# Altium footprint library PcbLib1.PcbLib: 10 footprints
Each footprint in its own frame and in the unit in brackets; x right, y up, seen from the top. Pads: shape width x height; smd on the part's side, far side on the other; paste and mask are expansions set on the pad; w line width, h text height; cw(c..) or ccw(c..) is an arc to the next point about the centre after c.
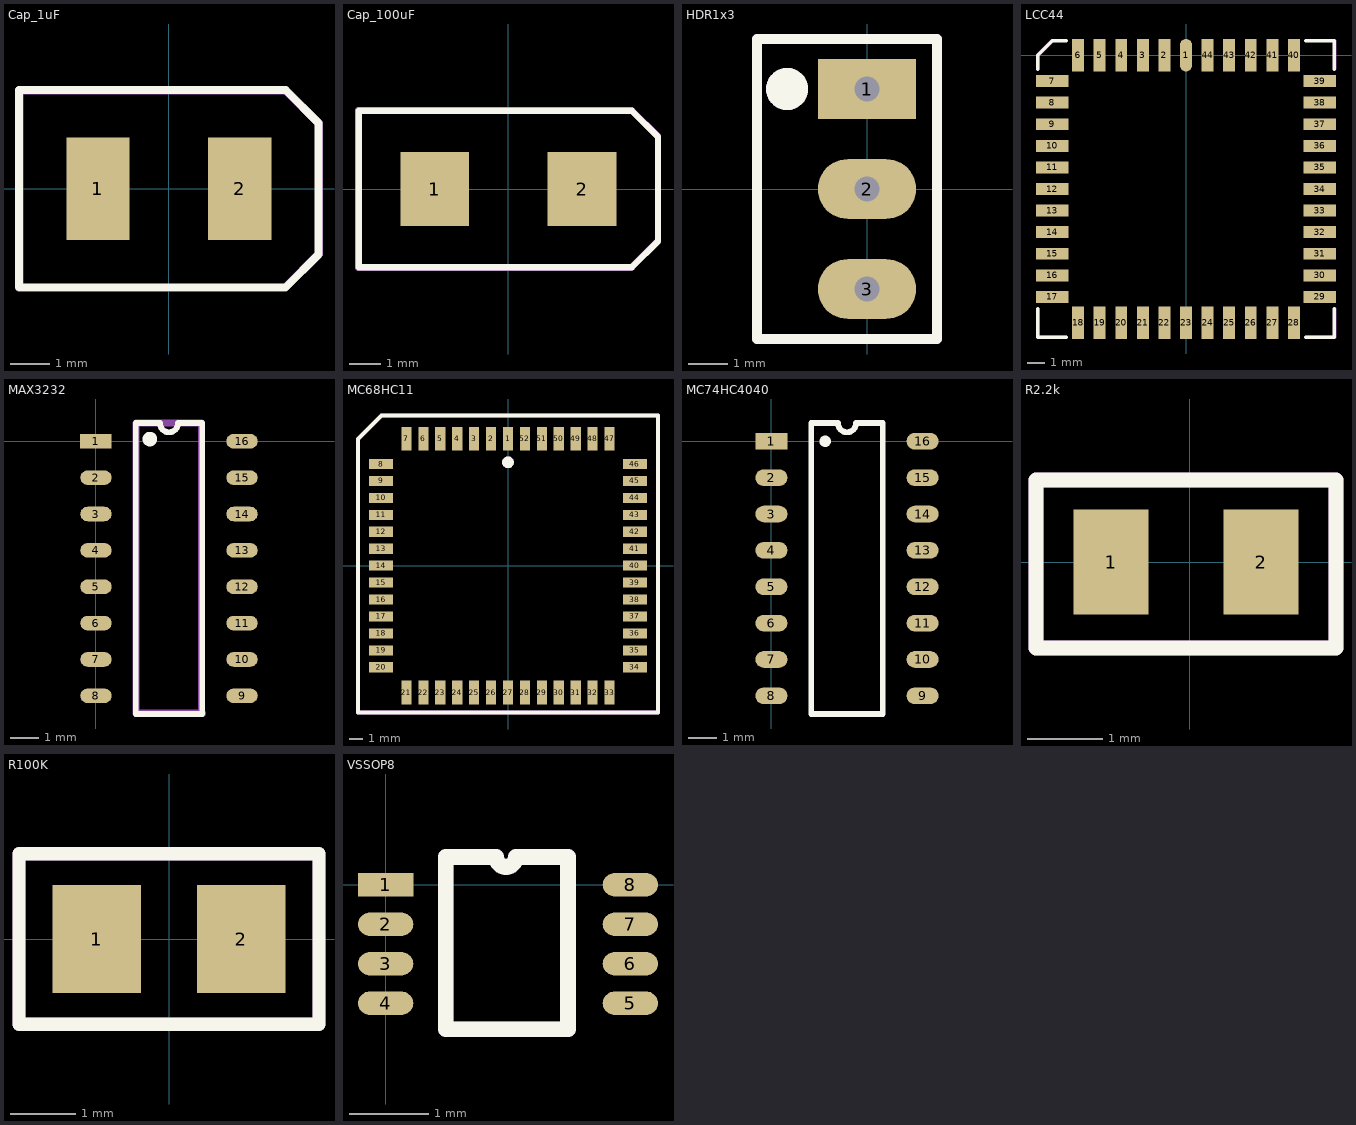
[diagram p0: the footprints below, top view; thin cyan lines are the x and y axes]

## Cap_1uF [mm]
pads (2):
  rect 1.6x2.6 smd: 1(-1.8,0) 2(1.8,0)
Top Overlay:
  lines w0.2: -3.8,-2.5 -3.8,0 -3.8,2.5 2.967,2.5 3.8,1.667 3.8,-1.667 2.967,-2.5 -3.8,-2.5
Mechanical 29:
  lines w0.2: -3.785,-2.515 2.946,-2.515 3.81,-1.651 3.81,1.651 2.972,2.489 -3.785,2.489 -3.785,-2.515
  text "'.Designator'" at -3.785,-2.515 h1.52
3D body "CAP_WCAP-ASLI_04p0X05p5_WRE.step": height 5.57, standoff 0, extent -2.604,-2.248 2.604,2.248

## Cap_100uF [mm]
pads (2):
  rect 2.2x2.35 smd: 1(-2.35,0) 2(2.35,0)
Top Overlay:
  lines w0.2: -4.775,-2.5 3.942,-2.5 4.775,-1.667 4.775,1.667 3.942,2.5 -4.775,2.5 -4.775,0 -4.775,-2.5
Mechanical 29:
  lines w0.2: -4.801,-2.515 -4.801,2.515 3.937,2.515 4.775,1.676 4.775,-1.651 3.912,-2.515 -4.801,-2.515
  text "'.Designator'" at -4.801,-2.515 h0.7
3D body "CAP_MZR_F80_NIP.step": height 8.05, standoff 0, extent -3.734,-3.454 3.658,3.354

## HDR1x3 [mm]
pads (3):
  rect 2.5x1.524 hole 0.64: 1(0,2.54)
  oval 2.5x1.524 hole 0.64: 2(0,0) 3(0,-2.54)
Top Overlay:
  circle w0.559: c-2.032,2.54 r0.254
  lines w0.254: -2.794,-3.81 -2.794,3.81 1.778,3.81 1.778,-3.81 -2.794,-3.81
Mechanical 29:
  circle w0.559: c-2.032,2.54 r0.254
  lines w0.254: -2.794,-3.81 1.778,-3.81 1.778,3.81 -2.794,3.81 -2.794,-3.81
  text "'.Designator'" at -2.282,-0.333 h0.8
3D body "Download_STP_61300311121_rev1.stp": height 8.54, standoff -3, extent -1.27,-3.81 1.27,3.81

## LCC44 [mm]
pads (44):
  oval 0.7x1.91 smd: 1(0,0)
  rect 0.7x1.91 smd: 2(-1.27,0) 3(-2.54,0) 4(-3.81,0) 5(-5.08,0) 6(-6.35,0) 18(-6.35,-15.74) 19(-5.08,-15.74) 20(-3.81,-15.74) 21(-2.54,-15.74) 22(-1.27,-15.74) 23(0,-15.74) 24(1.27,-15.74) 25(2.54,-15.74) 26(3.81,-15.74) 27(5.08,-15.74) 28(6.35,-15.74) 40(6.35,0) 41(5.08,0) 42(3.81,0) 43(2.54,0) 44(1.27,0)
  rect 1.91x0.7 smd: 7(-7.87,-1.52) 8(-7.87,-2.79) 9(-7.87,-4.06) 10(-7.87,-5.33) 11(-7.87,-6.6) 12(-7.87,-7.87) 13(-7.87,-9.14) 14(-7.87,-10.41) 15(-7.87,-11.68) 16(-7.87,-12.95) 17(-7.87,-14.22) 29(7.87,-14.22) 30(7.87,-12.95) 31(7.87,-11.68) 32(7.87,-10.41) 33(7.87,-9.14) 34(7.87,-7.87) 35(7.87,-6.6) 36(7.87,-5.33) 37(7.87,-4.06) 38(7.87,-2.79) 39(7.87,-1.52)
Top Overlay:
  lines w0.2: -8.725,-14.92 -8.725,-16.595 -7.05,-16.595 ; -8.725,-0.82 -8.725,0 -7.87,0.855 -7.05,0.855 ; 7.05,-16.595 8.725,-16.595 8.725,-14.92 ; 7.05,0.855 8.725,0.855 8.725,-0.82
Mechanical 29:
  lines w0.2: -8.708,-14.907 -8.708,-16.582 -7.033,-16.582 ; -8.708,-0.807 -8.708,0.013 -7.853,0.868 -7.033,0.868 ; 7.067,-16.582 8.742,-16.582 8.742,-14.907 ; 7.067,0.868 8.742,0.868 8.742,-0.807
  text ".Designator" at -8.608,-16.228 h0.76
3D body "8444-21b1-01.stp": height 4.66, standoff 0.01, extent -11.554,-19.288 11.561,3.802
3D body "SOT187-2_NXP.step": height 5.06, standoff 0.49, extent -8.518,-16.722 9.136,0.932

## MAX3232 [mm]
pads (16):
  rect 1.1x0.51 smd: 1(0,0)
  oval 1.1x0.51 smd: 2(0,-1.27) 3(0,-2.54) 4(0,-3.81) 5(0,-5.08) 6(0,-6.35) 7(0,-7.62) 8(0,-8.89) 9(5.1,-8.89) 10(5.1,-7.62) 11(5.1,-6.35) 12(5.1,-5.08) 13(5.1,-3.81) 14(5.1,-2.54) 15(5.1,-1.27) 16(5.1,0)
Top Overlay:
  circle w0.254: c1.88,0.076 r0.127
  lines w0.2: 1.385,-9.525 1.385,0.635 2.232,0.635 ccw(c2.55,0.635) 2.867,0.635 3.715,0.635 3.715,-9.525 1.385,-9.525
Mechanical 29:
  circle w0.254: c1.88,0.076 r0.105
  lines w0.254: 1.397,-9.5 3.708,-9.5 3.683,-9.474 3.683,0.635 1.397,0.635 1.397,-9.5
  text "'.Designator'" at 1.397,-9.5 h1.52
3D body "D16.step": height 1.76, standoff 0, extent -0.584,-9.474 5.614,0.534

## MC68HC11 [mm]
pads (52):
  rect 0.76x1.78 smd: 1(0,9.52) 2(-1.27,9.52) 3(-2.54,9.52) 4(-3.81,9.52) 5(-5.08,9.52) 6(-6.35,9.52) 7(-7.62,9.52) 21(-7.62,-9.52) 22(-6.35,-9.52) 23(-5.08,-9.52) 24(-3.81,-9.52) 25(-2.54,-9.52) 26(-1.27,-9.52) 27(0,-9.52) 28(1.27,-9.52) 29(2.54,-9.52) 30(3.81,-9.52) 31(5.08,-9.52) 32(6.35,-9.52) 33(7.62,-9.52) 47(7.62,9.52) 48(6.35,9.52) 49(5.08,9.52) 50(3.81,9.52) 51(2.54,9.52) 52(1.27,9.52)
  rect 1.78x0.76 smd: 8(-9.52,7.62) 9(-9.52,6.35) 10(-9.52,5.08) 11(-9.52,3.81) 12(-9.52,2.54) 13(-9.52,1.27) 14(-9.52,0) 15(-9.52,-1.27) 16(-9.52,-2.54) 17(-9.52,-3.81) 18(-9.52,-5.08) 19(-9.52,-6.35) 20(-9.52,-7.62) 34(9.52,-7.62) 35(9.52,-6.35) 36(9.52,-5.08) 37(9.52,-3.81) 38(9.52,-2.54) 39(9.52,-1.27) 40(9.52,0) 41(9.52,1.27) 42(9.52,2.54) 43(9.52,3.81) 44(9.52,5.08) 45(9.52,6.35) 46(9.52,7.62)
Top Overlay:
  circle w0.254: c0,7.75 r0.316
  rectangle: -0.3,7.45 0.316,8.05
  lines w0.3: -11.25,9.5 -9.5,11.25 11.25,11.25 11.25,-11 -11.25,-11 -11.25,9.5 ; -11.25,9.5 -11.25,9.5
Mechanical 29:
  circle w0.254: c0,7.75 r0.311
  rectangle: -0.3,7.45 0.3,8.05
  lines w0.3: -11.25,-11 -11.25,9.5 -9.5,11.25 11.25,11.25 11.25,-11 -11.25,-11
  text "'.Designator'" at -8.5,-6 h1.52
3D body "8452-21b1-01.stp": height 4.66, standoff 0.01, extent -12.827,-12.75 12.827,12.88
3D body "plcc52_p1-27_l19-2_w19-2.stp": height 5.26, standoff 0.31, extent -10.095,-10.095 10.095,10.095

## MC74HC4040 [mm]
pads (16):
  rect 1.12x0.58 smd: 1(0,0)
  oval 1.12x0.58 smd: 2(0,-1.27) 3(0,-2.54) 4(0,-3.81) 5(0,-5.08) 6(0,-6.35) 7(0,-7.62) 8(0,-8.89) 9(5.28,-8.89) 10(5.28,-7.62) 11(5.28,-6.35) 12(5.28,-5.08) 13(5.28,-3.81) 14(5.28,-2.54) 15(5.28,-1.27) 16(5.28,0)
Top Overlay:
  circle w0.254: c1.88,0 r0.072
  lines w0.2: 1.395,-9.525 3.885,-9.525 3.885,0.635 2.957,0.635 cw(c2.64,0.635) 2.322,0.635 1.395,0.635 1.395,-9.525
Mechanical 29:
  text "'.Designator'" at -0.457,-9.398 h1.52
3D body "SOIC-16_ONS.step": height 1.76, standoff 0, extent -0.458,-9.398 5.74,0.508

## R2.2k [mm]
pads (2):
  rect 1x1.397 smd: 1(-1.051,0) 2(0.949,0)
Top Overlay:
  lines w0.2: -2.051,-1.143 -2.051,1.092 1.949,1.092 1.949,-1.143 -2.051,-1.143
Mechanical 2:
  lines w0.2: -2.051,-1.143 -2.051,1.092 1.949,1.092 1.949,-1.143 -2.051,-1.143
Mechanical 29:
  text "'.Designator'" at -1.951,-0.533 h0.8
3D body "SR0805JR-7W2K2L.step": height 0.6, standoff 0, extent -1.025,-0.615 0.975,0.635

## R100K [mm]
pads (2):
  rect 1.35x1.65 smd: 1(-1.1,0) 2(1.1,0)
Top Overlay:
  lines w0.2: -2.286,-1.3 -2.286,1.3 2.286,1.3 2.286,-1.3 -2.286,-1.3
Mechanical 29:
  lines w0.2: -2.286,-1.3 -2.286,1.3 2.286,1.3 2.286,-1.3 -2.286,-1.3
  text ".Designator" at -1.932,-1.003 h0.5
3D body "CRCW0805100KFKEA.step": height 0.51, standoff 0.01, extent -1,-0.625 1,0.625

## VSSOP8 [mm]
pads (8):
  rect 0.7x0.3 smd mask+0.051: 1(0,0)
  oval 0.7x0.3 smd mask+0.051: 2(0,-0.5) 3(0,-1) 4(0,-1.5) 5(3.1,-1.5) 6(3.1,-1) 7(3.1,-0.5) 8(3.1,0)
Top Overlay:
  lines w0.2: 0.762,-1.829 2.311,-1.829 2.311,0.352 1.65,0.352 cw(c1.525,0.352) 1.4,0.352 0.762,0.352 0.762,-1.829
Mechanical 29:
  lines w0.2: 0.762,-1.829 0.762,0.352 1.4,0.352 ccw(c1.525,0.352) 1.65,0.352 2.311,0.352 2.311,-1.829 0.762,-1.829
  text ".Designator" at 1.446,-0.611 h0.3
3D body "SN74LVC2G74DCUR.step": height 0.9, standoff 0, extent -0.001,-1.737 3.099,0.263